# EAGLE library part CC2640R2FRHBT (library CC2640R2FRHBT)
SimpleLink Bluetooth low energy wireless MCU Source: Datasheet <http://www.ti.com/lit/gpn/CC2640R2F>
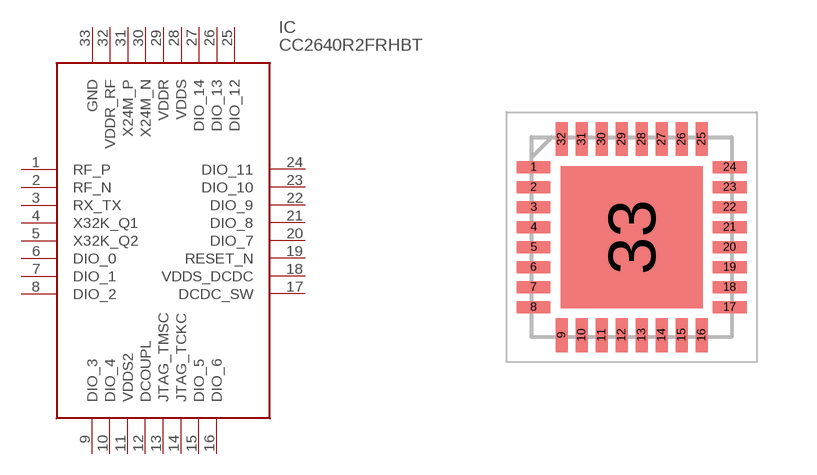
[diagram p0: symbol with the pads of QFN50P500X500X100-33N; footprint QFN50P500X500X100-33N]

Designator prefix IC

## CC2640R2FRHBT (Arrow_Part_Number: CC2640R2FRHBT; Arrow_Price-Stock: https://www.arrow.com/en/products/cc2640r2frhbt/texas-instruments?region=nac; Description: SimpleLink Bluetooth low energy wireless MCU; Height: 1mm; Manufacturer_Name: Texas Instruments; Manufacturer_Part_Number: CC2640R2FRHBT; Mouser_Part_Number: 595-CC2640R2FRHBT; Mouser_Price-Stock: https://www.mouser.co.uk/ProductDetail/Texas-Instruments/CC2640R2FRHBT?qs=6ZHl3BmPMW1THU0nD14Wvg%3D%3D)  [QFN50P500X500X100-33N]
1  RF_P
2  RF_N
3  RX_TX
4  X32K_Q1
5  X32K_Q2
6  DIO_0
7  DIO_1
8  DIO_2
9  DIO_3
10  DIO_4
11  VDDS2
12  DCOUPL
13  JTAG_TMSC
14  JTAG_TCKC
15  DIO_5
16  DIO_6
17  DCDC_SW
18  VDDS_DCDC
19  RESET_N
20  DIO_7
21  DIO_8
22  DIO_9
23  DIO_10
24  DIO_11
25  DIO_12
26  DIO_13
27  DIO_14
28  VDDS
29  VDDR
30  X24M_N
31  X24M_P
32  VDDR_RF
33  GND

## Footprint QFN50P500X500X100-33N (pad centres in mm)
RHB0032E
smd 0.85 x 0.3: 1 -2.45,1.75; 2 -2.45,1.25; 3 -2.45,0.75; 4 -2.45,0.25; 5 -2.45,-0.25; 6 -2.45,-0.75; 7 -2.45,-1.25; 8 -2.45,-1.75; 17 2.45,-1.75; 18 2.45,-1.25; 19 2.45,-0.75; 20 2.45,-0.25; 21 2.45,0.25; 22 2.45,0.75; 23 2.45,1.25; 24 2.45,1.75
smd 0.3 x 0.85: 9 -1.75,-2.45; 10 -1.25,-2.45; 11 -0.75,-2.45; 12 -0.25,-2.45; 13 0.25,-2.45; 14 0.75,-2.45; 15 1.25,-2.45; 16 1.75,-2.45; 25 1.75,2.45; 26 1.25,2.45; 27 0.75,2.45; 28 0.25,2.45; 29 -0.25,2.45; 30 -0.75,2.45; 31 -1.25,2.45; 32 -1.75,2.45
smd 3.55 x 3.55: 33 0,0